# EAGLE library part S7G2-176 (library 31813 Neutron Readout PCB)
Synergy S7G2 - LQFP 176
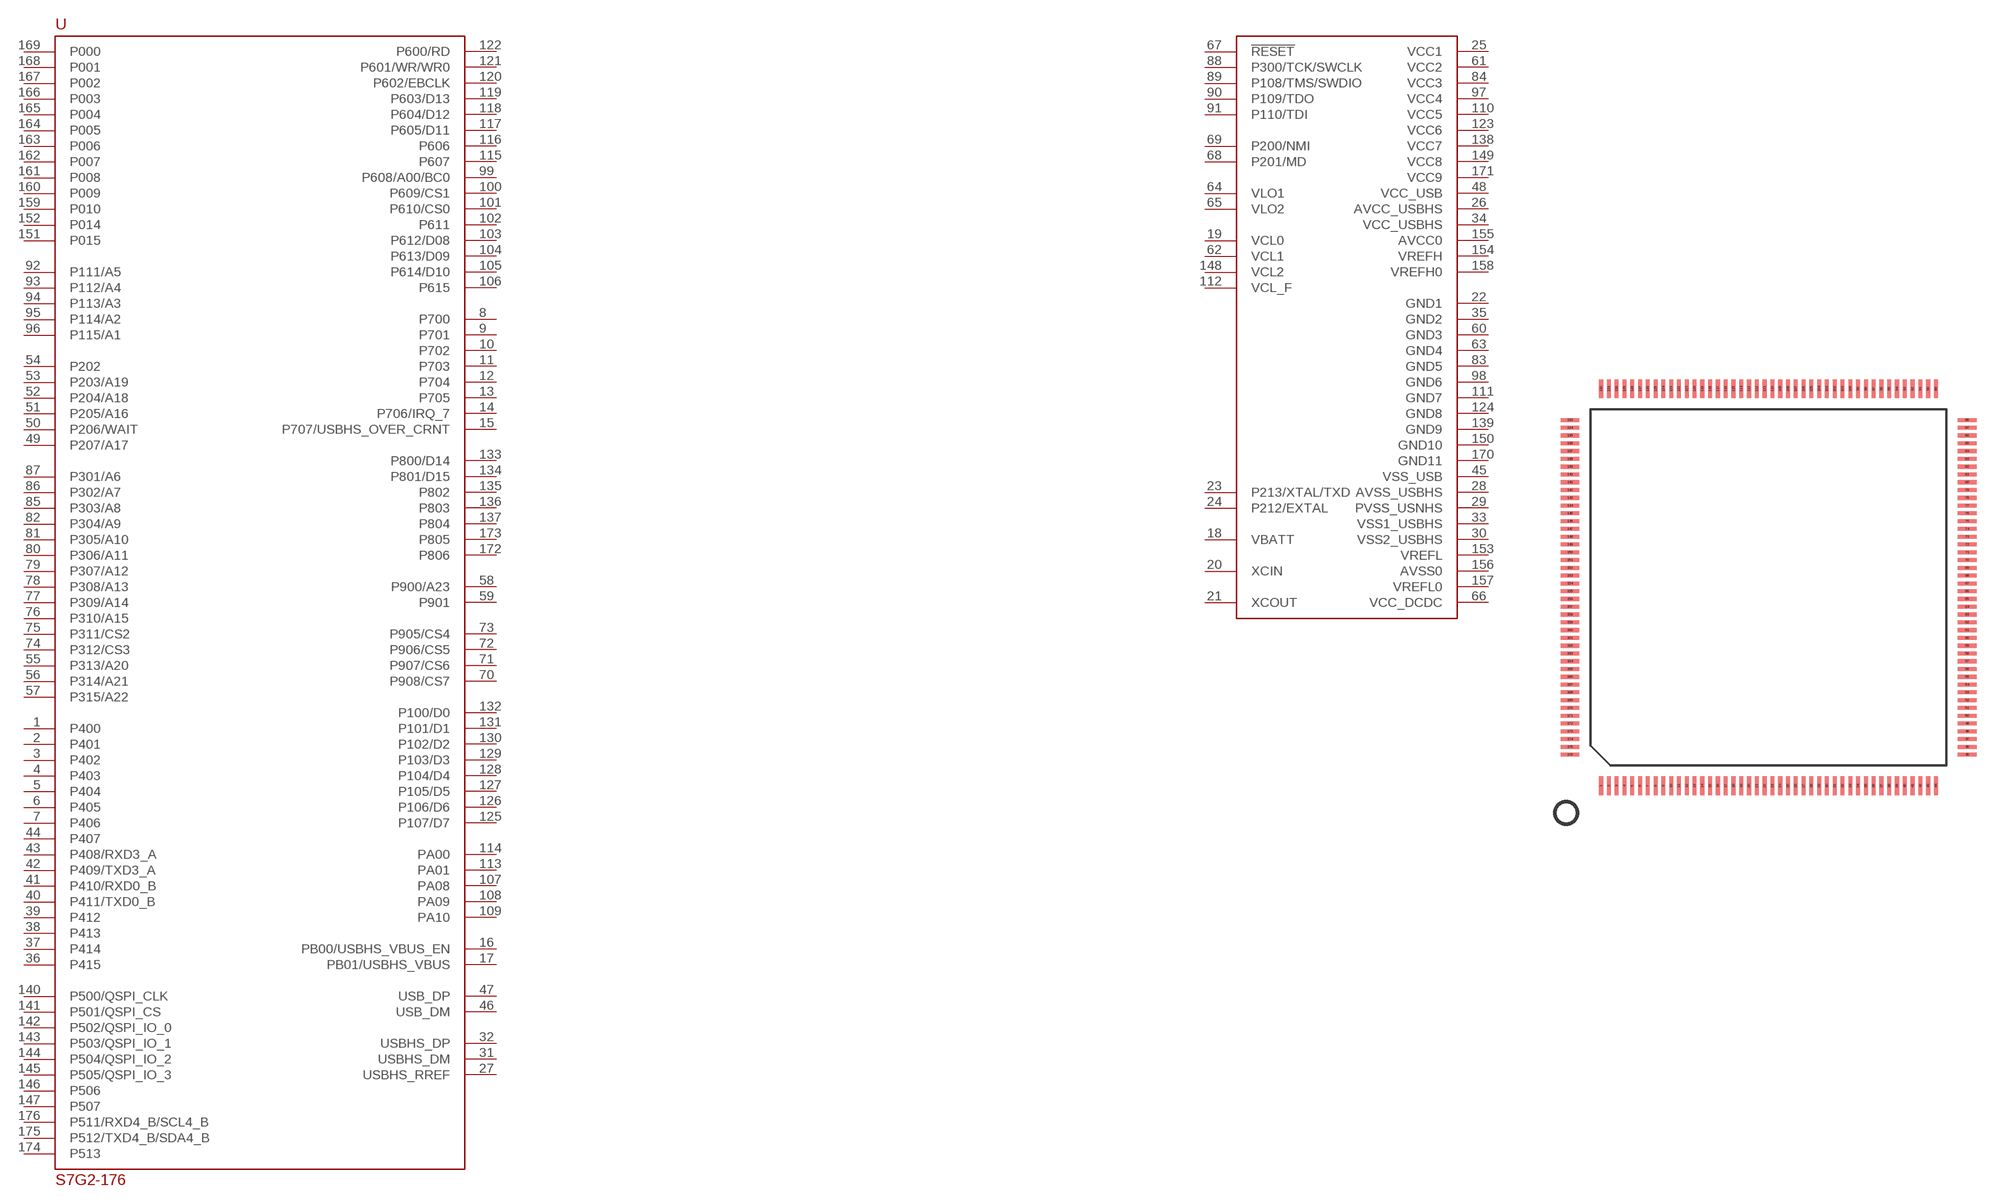
[diagram p8: symbol with the pads of LQFP176; footprint LQFP176]

Designator prefix U

## S7G2-176  [LQFP176]
1  P400
2  P401
3  P402
4  P403
5  P404
6  P405
7  P406
8  P700
9  P701
10  P702
11  P703
12  P704
13  P705
14  P706/IRQ_7
15  P707/USBHS_OVER_CRNT
16  PB00/USBHS_VBUS_EN
17  PB01/USBHS_VBUS
18  VBATT
19  VCL0
20  XCIN
21  XCOUT
22  GND1
23  P213/XTAL/TXD
24  P212/EXTAL
25  VCC1
26  AVCC_USBHS
27  USBHS_RREF
28  AVSS_USBHS
29  PVSS_USNHS
30  VSS2_USBHS
31  USBHS_DM
32  USBHS_DP
33  VSS1_USBHS
34  VCC_USBHS
35  GND2
36  P415
37  P414
38  P413
39  P412
40  P411/TXD0_B
41  P410/RXD0_B
42  P409/TXD3_A
43  P408/RXD3_A
44  P407
45  VSS_USB
46  USB_DM
47  USB_DP
48  VCC_USB
49  P207/A17
50  P206/WAIT
51  P205/A16
52  P204/A18
53  P203/A19
54  P202
55  P313/A20
56  P314/A21
57  P315/A22
58  P900/A23
59  P901
60  GND3
61  VCC2
62  VCL1
63  GND4
64  VLO1
65  VLO2
66  VCC_DCDC
67  !RESET
68  P201/MD
69  P200/NMI
70  P908/CS7
71  P907/CS6
72  P906/CS5
73  P905/CS4
74  P312/CS3
75  P311/CS2
76  P310/A15
77  P309/A14
78  P308/A13
79  P307/A12
80  P306/A11
81  P305/A10
82  P304/A9
83  GND5
84  VCC3
85  P303/A8
86  P302/A7
87  P301/A6
88  P300/TCK/SWCLK
89  P108/TMS/SWDIO
90  P109/TDO
91  P110/TDI
92  P111/A5
93  P112/A4
94  P113/A3
95  P114/A2
96  P115/A1
97  VCC4
98  GND6
99  P608/A00/BC0
100  P609/CS1
101  P610/CS0
102  P611
103  P612/D08
104  P613/D09
105  P614/D10
106  P615
107  PA08
108  PA09
109  PA10
110  VCC5
111  GND7
112  VCL_F
113  PA01
114  PA00
115  P607
116  P606
117  P605/D11
118  P604/D12
119  P603/D13
120  P602/EBCLK
121  P601/WR/WR0
122  P600/RD
123  VCC6
124  GND8
125  P107/D7
126  P106/D6
127  P105/D5
128  P104/D4
129  P103/D3
130  P102/D2
131  P101/D1
132  P100/D0
133  P800/D14
134  P801/D15
135  P802
136  P803
137  P804
138  VCC7
139  GND9
140  P500/QSPI_CLK
141  P501/QSPI_CS
142  P502/QSPI_IO_0
143  P503/QSPI_IO_1
144  P504/QSPI_IO_2
145  P505/QSPI_IO_3
146  P506
147  P507
148  VCL2
149  VCC8
150  GND10
151  P015
152  P014
153  VREFL
154  VREFH
155  AVCC0
156  AVSS0
157  VREFL0
158  VREFH0
159  P010
160  P009
161  P008
162  P007
163  P006
164  P005
165  P004
166  P003
167  P002
168  P001
169  P000
170  GND11
171  VCC9
172  P806
173  P805
174  P513
175  P512/TXD4_B/SDA4_B
176  P511/RXD4_B/SCL4_B

## Footprint LQFP176 (pad centres in mm)
smd 0.25 x 1.2: 1 -10.75,-12.75; 2 -10.25,-12.75; 3 -9.75,-12.75; 4 -9.25,-12.75; 5 -8.75,-12.75; 6 -8.25,-12.75; 7 -7.75,-12.75; 8 -7.25,-12.75; 9 -6.75,-12.75; 10 -6.25,-12.75; 11 -5.75,-12.75; 12 -5.25,-12.75; 13 -4.75,-12.75; 14 -4.25,-12.75; 15 -3.75,-12.75; 16 -3.25,-12.75; 17 -2.75,-12.75; 18 -2.25,-12.75; 19 -1.75,-12.75; 20 -1.25,-12.75; 21 -0.75,-12.75; 22 -0.25,-12.75; 23 0.25,-12.75; 24 0.75,-12.75; 25 1.25,-12.75; 26 1.75,-12.75; 27 2.25,-12.75; 28 2.75,-12.75; 29 3.25,-12.75; 30 3.75,-12.75; 31 4.25,-12.75; 32 4.75,-12.75; 33 5.25,-12.75; 34 5.75,-12.75; 35 6.25,-12.75; 36 6.75,-12.75; 37 7.25,-12.75; 38 7.75,-12.75; 39 8.25,-12.75; 40 8.75,-12.75; 41 9.25,-12.75; 42 9.75,-12.75; 43 10.25,-12.75; 44 10.75,-12.75; 89 10.75,12.75; 90 10.25,12.75; 91 9.75,12.75; 92 9.25,12.75; 93 8.75,12.75; 94 8.25,12.75; 95 7.75,12.75; 96 7.25,12.75; 97 6.75,12.75; 98 6.25,12.75; 99 5.75,12.75; 100 5.25,12.75; 101 4.75,12.75; 102 4.25,12.75; 103 3.75,12.75; 104 3.25,12.75; 105 2.75,12.75; 106 2.25,12.75; 107 1.75,12.75; 108 1.25,12.75; 109 0.75,12.75; 110 0.25,12.75; 111 -0.25,12.75; 112 -0.75,12.75; 113 -1.25,12.75; 114 -1.75,12.75; 115 -2.25,12.75; 116 -2.75,12.75; 117 -3.25,12.75; 118 -3.75,12.75; 119 -4.25,12.75; 120 -4.75,12.75; 121 -5.25,12.75; 122 -5.75,12.75; 123 -6.25,12.75; 124 -6.75,12.75; 125 -7.25,12.75; 126 -7.75,12.75; 127 -8.25,12.75; 128 -8.75,12.75; 129 -9.25,12.75; 130 -9.75,12.75; 131 -10.25,12.75; 132 -10.75,12.75
smd 1.2 x 0.25: 45 12.75,-10.75; 46 12.75,-10.25; 47 12.75,-9.75; 48 12.75,-9.25; 49 12.75,-8.75; 50 12.75,-8.25; 51 12.75,-7.75; 52 12.75,-7.25; 53 12.75,-6.75; 54 12.75,-6.25; 55 12.75,-5.75; 56 12.75,-5.25; 57 12.75,-4.75; 58 12.75,-4.25; 59 12.75,-3.75; 60 12.75,-3.25; 61 12.75,-2.75; 62 12.75,-2.25; 63 12.75,-1.75; 64 12.75,-1.25; 65 12.75,-0.75; 66 12.75,-0.25; 67 12.75,0.25; 68 12.75,0.75; 69 12.75,1.25; 70 12.75,1.75; 71 12.75,2.25; 72 12.75,2.75; 73 12.75,3.25; 74 12.75,3.75; 75 12.75,4.25; 76 12.75,4.75; 77 12.75,5.25; 78 12.75,5.75; 79 12.75,6.25; 80 12.75,6.75; 81 12.75,7.25; 82 12.75,7.75; 83 12.75,8.25; 84 12.75,8.75; 85 12.75,9.25; 86 12.75,9.75; 87 12.75,10.25; 88 12.75,10.75; 133 -12.75,10.75; 134 -12.75,10.25; 135 -12.75,9.75; 136 -12.75,9.25; 137 -12.75,8.75; 138 -12.75,8.25; 139 -12.75,7.75; 140 -12.75,7.25; 141 -12.75,6.75; 142 -12.75,6.25; 143 -12.75,5.75; 144 -12.75,5.25; 145 -12.75,4.75; 146 -12.75,4.25; 147 -12.75,3.75; 148 -12.75,3.25; 149 -12.75,2.75; 150 -12.75,2.25; 151 -12.75,1.75; 152 -12.75,1.25; 153 -12.75,0.75; 154 -12.75,0.25; 155 -12.75,-0.25; 156 -12.75,-0.75; 157 -12.75,-1.25; 158 -12.75,-1.75; 159 -12.75,-2.25; 160 -12.75,-2.75; 161 -12.75,-3.25; 162 -12.75,-3.75; 163 -12.75,-4.25; 164 -12.75,-4.75; 165 -12.75,-5.25; 166 -12.75,-5.75; 167 -12.75,-6.25; 168 -12.75,-6.75; 169 -12.75,-7.25; 170 -12.75,-7.75; 171 -12.75,-8.25; 172 -12.75,-8.75; 173 -12.75,-9.25; 174 -12.75,-9.75; 175 -12.75,-10.25; 176 -12.75,-10.75